# EAGLE library part IC_TTP23 (library akita)
TTP223, single touch detector
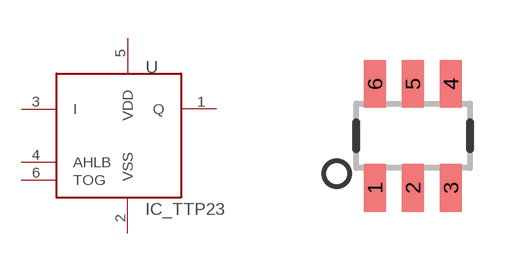
[diagram p161: symbol with the pads of SOT23-6; footprint SOT23-6]

Designator prefix U

## IC_TTP23BA6  [SOT23-6]
1  Q
2  VSS
3  I
4  AHLB
5  VDD
6  TOG

## Footprint SOT23-6 (pad centres in mm)
smd 0.55 x 1.2: 1 -0.95,-1.3; 2 0,-1.3; 3 0.95,-1.3; 4 0.95,1.3; 5 0,1.3; 6 -0.95,1.3